# Altium schematic symbol library xstr.SchLib: 24 symbols
Pins are listed as number, name and electrical type; pins without a type are passive.

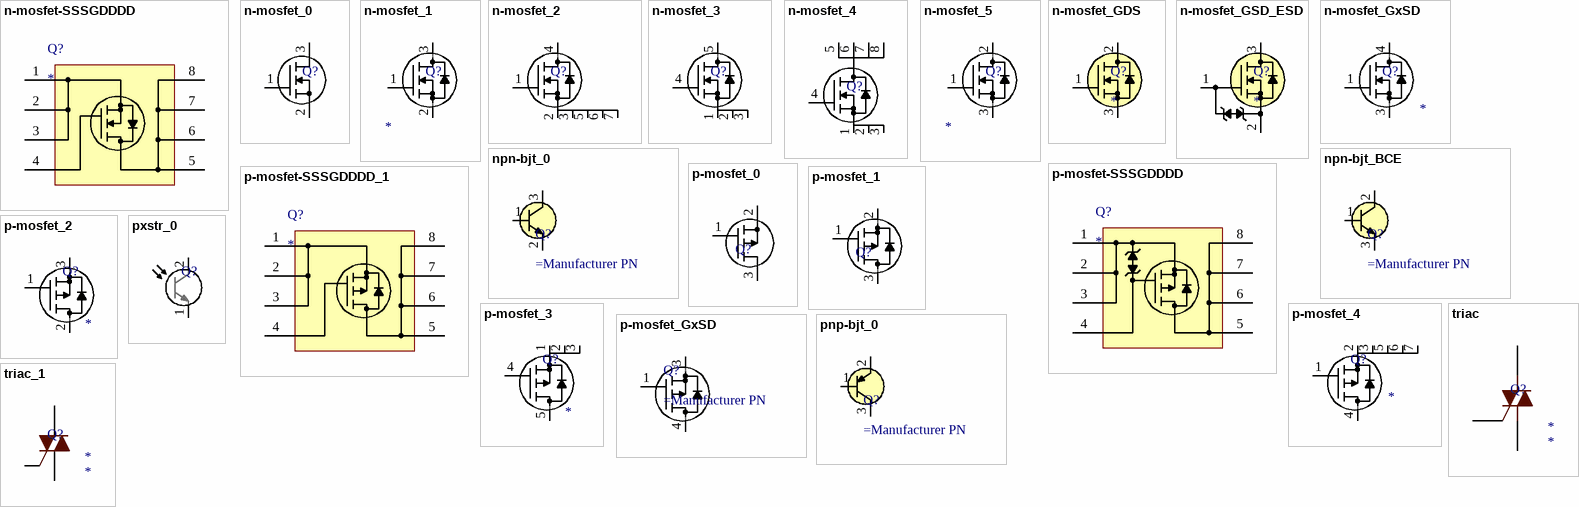
[diagram p0: symbols n-mosfet-SSSGDDDD to triac_1]

## n-mosfet-SSSGDDDD
designator Q?
N-Channel MOSFET 8-pin w/ Body Diode; Max Voltage: *; Max Power: *; Type: *; Max Current: *; Manufacturer PN: *
pins: 1 S, 2 S, 3 S, 4 G, 5 D, 6 D, 7 D, 8 D

## n-mosfet_0
designator Q?  (value not drawn)
N-Channel MOSFET 3 Terminal; Max Current: *; Max Power: *; Max Voltage: *; Type: *
footprint sot-23-3 (SOT-23-3 package)
pins: 1 G, 2 S, 3 D

## n-mosfet_1
designator Q?
N-Channel MOSFET w/ Body Diode 3 Terminal; Max Current: *; Max Voltage: *; Max Power: *; Type: *; Manufacturer PN: *
footprint sot-23-3 (SOT-23-3 package)
footprint PPAK-SO-8 (PowerPAK SO-8)
pins: 1 G, 2 S, 3 D

## n-mosfet_2
designator Q?  (value not drawn)
N-Channel MOSFET w/ Body Diode 7 Terminal; Max Current: *; Max Voltage: *; Max Power: *; Type: *
footprint d2pak-7_0 (D2-Pak, 7 pin, Large Thermal Pad)
pins: 1 G, 2 S, 3 S, 4 D, 5 S, 6 S, 7 S

## n-mosfet_3
designator Q?  (value not drawn)
N-Channel MOSFET w/ Body Diode LFPAK; Max Current: *; Max Voltage: *; Max Power: *; Type: *
pins: 1 S, 2 S, 3 S, 4 G, 5 D

## n-mosfet_4
designator Q?  (value not drawn)
N-Channel MOSFET w/ Body Diode son8
pins: 1 S, 2 S, 3 S, 4 G, 5 D, 6 D, 7 D, 8 D

## n-mosfet_5
designator Q?
N-MOSFET intended for TO-220 packages; Max Current: *; Max Power: *; Max Voltage: *; Type: *; Manufacturer PN: *
pins: 1 G, 2 D, 3 S

## n-mosfet_GDS
designator Q?
N-Channel MOSFET GDS w/ Body Diode 3 Terminal,; Max Voltage: *; Max Power: *; Type: *; Max Current: *; Manufacturer PN: *
pins: 1 G, 2 D, 3 S

## n-mosfet_GSD_ESD
designator Q?
N-Channel MOSFET GSD  3 Terminal w/ Body Diode and ESD protected gate; Max Voltage: *; Max Power: *; Type: *; Max Current: *; Manufacturer PN: *
pins: 1 G, 2 S, 3 D

## n-mosfet_GxSD
designator Q?
N-Channel MOSFET GDS w/ Body Diode for DxPAK; Max Voltage: *; Max Power: *; Type: *; Max Current: *; Manufacturer PN: *
pins: 1 G, 3 S, 4 D

## npn-bjt_0
designator Q?
NPN BJT 3 Terminal; Max Current: *; Max Power: *; Max Voltage: *; Type: *
footprint sot-23-3 (SOT-23-3 package)
pins: 1 B, 2 E, 3 C

## npn-bjt_BCE
designator Q?
NPN BJT 3 Terminal; Max Current: *; Max Power: *; Max Voltage: *; Type: *
footprint sot-23-3 (SOT-23-3 package)
pins: 1 B, 2 C, 3 E

## p-mosfet-SSSGDDDD
designator Q?
P-Channel MOSFET, 8-pin; Max Voltage: *; Max Current: *; Manufacturer PN: *
pins: 1 S, 2 S, 3 S, 4 G, 5 D, 6 D, 7 D, 8 D

## p-mosfet-SSSGDDDD_1
designator Q?
P-Channel MOSFET, 8-pin, No G-S Zener; Max Voltage: *; Max Current: *; Manufacturer PN: *
pins: 1 S, 2 S, 3 S, 4 G, 5 D, 6 D, 7 D, 8 D

## p-mosfet_0
designator Q?  (value not drawn)
P-Channel MOSFET 3 Terminal; Max Current: *; Max Power: *; Max Voltage: *; Type: *
footprint sot-23-3 (SOT-23-3 package)
footprint DPAK_0 (DPAK); pin to pad 2>3 3>2
pins: 1 G, 2 S, 3 D

## p-mosfet_1
designator Q?  (value not drawn)
P-Channel MOSFET w/ Body Diode 3 Terminal; Max Power: *; Max Voltage: *; Max Current: *; Type: *
footprint sot-23-3 (SOT-23-3 package)
footprint DPAK_0 (DPAK); pin to pad 2>3 3>2
pins: 1 G, 2 S, 3 D

## p-mosfet_2
designator Q?
P-Channel MOSFET w/ Body Diode, for TO-220; Max Voltage: *; Max Current: *; Max Power: *; Type: *; Manufacturer PN: *
footprint TO-220_0
pins: 1 G, 2 D, 3 S

## p-mosfet_3
designator Q?
P-Channel MOSFET w/ Body Diode 5 terminal; Max Current: *; Max Voltage: *; Max Power: *; Type: *; Manufacturer PN: *
pins: 1 S, 2 S, 3 S, 4 G, 5 D

## p-mosfet_4
designator Q?
P-Channel MOSFET w/ Body Diode 7 terminal; Max Current: *; Max Voltage: *; Max Power: *; Type: *; Manufacturer PN: *
pins: 1 G, 2 S, 3 S, 4 D, 5 S, 6 S, 7 S

## p-mosfet_GxSD
designator Q?
pins: 1 G, 3 S, 4 D

## pnp-bjt_0
designator Q?
PNP BJT Terminal; Max Current: *; Max Power: *; Max Voltage: *; Type: *
footprint sot-23-3 (SOT-23-3 package)
pins: 1 B, 2 E, 3 C

## pxstr_0
designator Q?  (value not drawn)
footprint LED_0.1_0 (LED, Dual Lead, 0.1" Spacing)
pins: 1, 2

## triac
designator Q?
Basic Triac Symbol; Max Current: *; Max Power: *; Type: *; Max Voltage: *; Manufacturer PN: *
pins: 1 M1, 2 M2, 3 G

## triac_1
designator Q?
Triac Symbol, intended for D2PAK; Max Current: *; Max Power: *; Type: *; Max Voltage: *; Manufacturer PN: *
pins: 1 M1, 3 G, 4 M2